# Altium footprint library Handheld.PcbLib: 77 footprints (part 2 of 5)
Each footprint in its own frame and in the unit in brackets; x right, y up, seen from the top. Pads: shape width x height; smd on the part's side, far side on the other; paste and mask are expansions set on the pad; w line width, h text height; cw(c..) or ccw(c..) is an arc to the next point about the centre after c.
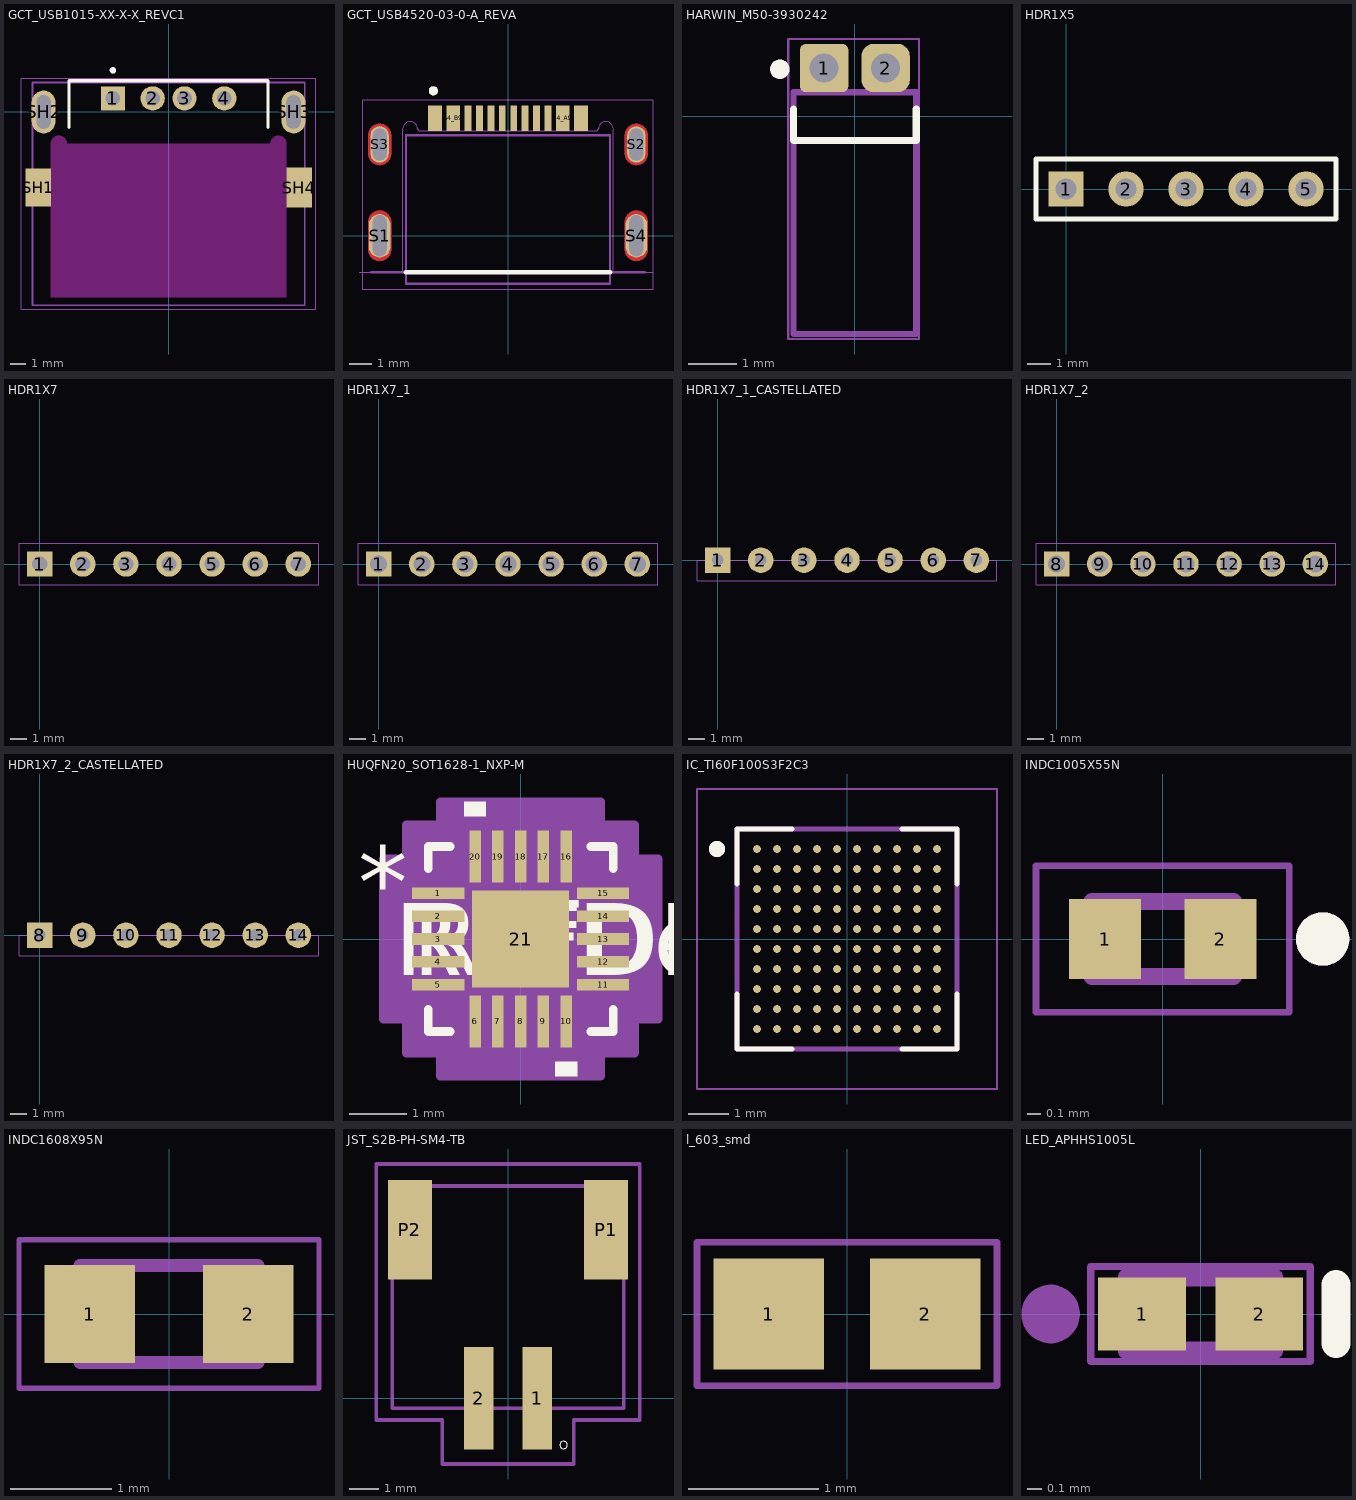
[diagram p1: the footprints below, top view; thin cyan lines are the x and y axes]

## GCT_USB1015-XX-X-X_REVC1 [mm]
height 6.22
pads (8):
  rect 1.524x1.524 / inner round 1.524 / far side rect 1.524x1.524 hole 0.92: 1(-3.5,0.85)
  round 1.524 hole 0.92: 2(-1,0.85) 3(1,0.85) 4(3.5,0.85)
  rect 1.6x2.4 smd: SH1(-8.2,-4.75)
  oval 1.5x2.7 hole 0.9 slot 2.1 at 90 deg: SH2(-7.85,0) SH3(7.85,0)
  rect 1.6x2.5 smd: SH4(8.2,-4.75)
Top Overlay:
  circle w0.2: c-3.5,2.612 r0.1
  lines w0.2: -6.25,-0.97 -6.25,1.962 6.25,1.962 6.25,-0.97
Keep-Out Layer:
  board cut-out: 7.4,-11.65 -7.4,-11.65 -7.4,-1.95 -7.396,-1.921 -7.392,-1.897 -7.386,-1.873 -7.38,-1.85 -7.372,-1.826 -7.363,-1.803 -7.353,-1.781 -7.341,-1.759 -7.329,-1.738 -7.316,-1.717 -7.301,-1.697 -7.286,-1.678 -7.27,-1.659 -7.252,-1.642 -7.234,-1.625 -7.216,-1.609 -7.196,-1.594 -7.176,-1.58 -7.155,-1.567 -7.133,-1.556 -7.111,-1.545 -7.088,-1.535 -7.065,-1.527 -7.042,-1.519 -7.018,-1.513 -6.994,-1.508 -6.969,-1.504 -6.945,-1.502 -6.92,-1.5 -6.9,-1.5 -6.88,-1.5 -6.855,-1.502 -6.831,-1.504 -6.806,-1.508 -6.782,-1.513 -6.758,-1.519 -6.735,-1.527 -6.712,-1.535 -6.689,-1.545 -6.667,-1.556 -6.645,-1.567 -6.624,-1.58 -6.604,-1.594 -6.584,-1.609 -6.566,-1.625 -6.548,-1.642 -6.53,-1.659 -6.514,-1.678 -6.499,-1.697 -6.484,-1.717 -6.471,-1.738 -6.459,-1.759 -6.447,-1.781 -6.437,-1.803 -6.428,-1.826 -6.42,-1.85 -6.414,-1.873 -6.408,-1.897 -6.404,-1.921 -6.4,-1.95 -6.4,-2 6.4,-2 6.4,-1.95 6.403,-1.926 6.408,-1.901 6.413,-1.877 6.42,-1.853 6.428,-1.83 6.437,-1.807 6.447,-1.784 6.459,-1.762 6.471,-1.74 6.485,-1.719 6.499,-1.699 6.515,-1.68 6.531,-1.661 6.549,-1.643 6.567,-1.626 6.586,-1.61 6.606,-1.595 6.626,-1.581 6.648,-1.568 6.669,-1.556 6.692,-1.545 6.715,-1.535 6.738,-1.527 6.762,-1.519 6.786,-1.513 6.81,-1.508 6.835,-1.504 6.86,-1.502 6.884,-1.5 6.91,-1.5 6.934,-1.501 6.958,-1.502 6.982,-1.505 7.006,-1.51 7.03,-1.515 7.053,-1.522 7.077,-1.529 7.099,-1.538 7.121,-1.548 7.143,-1.559 7.164,-1.571 7.185,-1.584 7.205,-1.598 7.224,-1.613 7.242,-1.629 7.26,-1.646 7.276,-1.664 7.292,-1.683 7.307,-1.702 7.321,-1.722 7.334,-1.742 7.346,-1.764 7.356,-1.786 7.366,-1.808 7.375,-1.831 7.382,-1.854 7.388,-1.877 7.393,-1.901 7.397,-1.925 7.4,-1.95
Mechanical 13:
  circle w0.2: c-3.5,2.612 r0.1
  lines w0.1: -8.55,-12.15 8.55,-12.15 8.55,1.85 -8.55,1.85 -8.55,-12.15
Mechanical 15:
  lines w0.05: -9.25,-12.4 -9.25,2.1 9.25,2.1 9.25,-12.4 -9.25,-12.4
3D body "step_temp.STEP": height 4.3, standoff -2.55, extent -8.55,-12.15 8.55,1.85

## GCT_USB4520-03-0-A_REVA [mm]
pads (16):
  rect 0.6x1.1 smd: A1_B12(-3.2,5.15) A4_B9(-2.4,5.15) B1_A12(3.2,5.15) B4_A9(2.4,5.15)
  rect 0.3x1.1 smd: A5(-1.25,5.15) A6(-0.25,5.15) A7(0.25,5.15) A8(1.25,5.15) B5(1.75,5.15) B6(0.75,5.15) B7(-0.75,5.15) B8(-1.75,5.15)
  oval 0.95x1.9 hole 0.6 slot 1.8 at 90 deg mask+0: S1(-5.62,0) S4(5.62,0)
  oval 0.8x1.6 hole 0.6 slot 1.4 at 90 deg mask+0: S2(5.62,4) S3(-5.62,4)
Top Layer:
  region: -5.594,4.899 -5.568,4.897 -5.542,4.894 -5.516,4.889 -5.491,4.883 -5.465,4.876 -5.441,4.867 -5.417,4.857 -5.393,4.846 -5.37,4.833 -5.348,4.819 -5.326,4.805 -5.305,4.789 -5.285,4.772 -5.266,4.754 -5.248,4.735 -5.231,4.715 -5.215,4.694 -5.201,4.672 -5.187,4.65 -5.174,4.627 -5.163,4.603 -5.153,4.579 -5.144,4.555 -5.137,4.529 -5.131,4.504 -5.126,4.478 -5.123,4.452 -5.121,4.426 -5.12,4.4 -5.12,3.6 -5.121,3.574 -5.123,3.548 -5.126,3.522 -5.131,3.496 -5.137,3.471 -5.144,3.445 -5.153,3.421 -5.163,3.397 -5.174,3.373 -5.187,3.35 -5.201,3.328 -5.215,3.306 -5.231,3.285 -5.248,3.265 -5.266,3.246 -5.285,3.228 -5.305,3.211 -5.326,3.195 -5.348,3.181 -5.37,3.167 -5.393,3.154 -5.417,3.143 -5.441,3.133 -5.465,3.124 -5.491,3.117 -5.516,3.111 -5.542,3.106 -5.568,3.103 -5.594,3.101 -5.62,3.1 -5.646,3.101 -5.672,3.103 -5.698,3.106 -5.724,3.111 -5.749,3.117 -5.775,3.124 -5.799,3.133 -5.823,3.143 -5.847,3.154 -5.87,3.167 -5.892,3.181 -5.914,3.195 -5.935,3.211 -5.955,3.228 -5.974,3.246 -5.992,3.265 -6.009,3.285 -6.025,3.306 -6.039,3.328 -6.053,3.35 -6.066,3.373 -6.077,3.397 -6.087,3.421 -6.096,3.445 -6.103,3.471 -6.109,3.496 -6.114,3.522 -6.117,3.548 -6.119,3.574 -6.12,3.6 -6.12,4.4 -6.119,4.426 -6.117,4.452 -6.114,4.478 -6.109,4.504 -6.103,4.529 -6.096,4.555 -6.087,4.579 -6.077,4.603 -6.066,4.627 -6.053,4.65 -6.039,4.672 -6.025,4.694 -6.009,4.715 -5.992,4.735 -5.974,4.754 -5.955,4.772 -5.935,4.789 -5.914,4.805 -5.892,4.819 -5.87,4.833 -5.847,4.846 -5.823,4.857 -5.799,4.867 -5.775,4.876 -5.749,4.883 -5.724,4.889 -5.698,4.894 -5.672,4.897 -5.646,4.899 -5.62,4.9
  region: 5.646,4.899 5.672,4.897 5.698,4.894 5.724,4.889 5.749,4.883 5.775,4.876 5.799,4.867 5.823,4.857 5.847,4.846 5.87,4.833 5.892,4.819 5.914,4.805 5.935,4.789 5.955,4.772 5.974,4.754 5.992,4.735 6.009,4.715 6.025,4.694 6.039,4.672 6.053,4.65 6.066,4.627 6.077,4.603 6.087,4.579 6.096,4.555 6.103,4.529 6.109,4.504 6.114,4.478 6.117,4.452 6.119,4.426 6.12,4.4 6.12,3.6 6.119,3.574 6.117,3.548 6.114,3.522 6.109,3.496 6.103,3.471 6.096,3.445 6.087,3.421 6.077,3.397 6.066,3.373 6.053,3.35 6.039,3.328 6.025,3.306 6.009,3.285 5.992,3.265 5.974,3.246 5.955,3.228 5.935,3.211 5.914,3.195 5.892,3.181 5.87,3.167 5.847,3.154 5.823,3.143 5.799,3.133 5.775,3.124 5.749,3.117 5.724,3.111 5.698,3.106 5.672,3.103 5.646,3.101 5.62,3.1 5.594,3.101 5.568,3.103 5.542,3.106 5.516,3.111 5.491,3.117 5.465,3.124 5.441,3.133 5.417,3.143 5.393,3.154 5.37,3.167 5.348,3.181 5.326,3.195 5.305,3.211 5.285,3.228 5.266,3.246 5.248,3.265 5.231,3.285 5.215,3.306 5.201,3.328 5.187,3.35 5.174,3.373 5.163,3.397 5.153,3.421 5.144,3.445 5.137,3.471 5.131,3.496 5.126,3.522 5.123,3.548 5.121,3.574 5.12,3.6 5.12,4.4 5.121,4.426 5.123,4.452 5.126,4.478 5.131,4.504 5.137,4.529 5.144,4.555 5.153,4.579 5.163,4.603 5.174,4.627 5.187,4.65 5.201,4.672 5.215,4.694 5.231,4.715 5.248,4.735 5.266,4.754 5.285,4.772 5.305,4.789 5.326,4.805 5.348,4.819 5.37,4.833 5.393,4.846 5.417,4.857 5.441,4.867 5.465,4.876 5.491,4.883 5.516,4.889 5.542,4.894 5.568,4.897 5.594,4.899 5.62,4.9
  region: -5.594,1.099 -5.568,1.097 -5.542,1.094 -5.516,1.089 -5.491,1.083 -5.465,1.076 -5.441,1.067 -5.417,1.057 -5.393,1.046 -5.37,1.033 -5.348,1.019 -5.326,1.005 -5.305,0.989 -5.285,0.972 -5.266,0.954 -5.248,0.935 -5.231,0.915 -5.215,0.894 -5.201,0.872 -5.187,0.85 -5.174,0.827 -5.163,0.803 -5.153,0.779 -5.144,0.755 -5.137,0.729 -5.131,0.704 -5.126,0.678 -5.123,0.652 -5.121,0.626 -5.12,0.6 -5.12,-0.6 -5.121,-0.626 -5.123,-0.652 -5.126,-0.678 -5.131,-0.704 -5.137,-0.729 -5.144,-0.755 -5.153,-0.779 -5.163,-0.803 -5.174,-0.827 -5.187,-0.85 -5.201,-0.872 -5.215,-0.894 -5.231,-0.915 -5.248,-0.935 -5.266,-0.954 -5.285,-0.972 -5.305,-0.989 -5.326,-1.005 -5.348,-1.019 -5.37,-1.033 -5.393,-1.046 -5.417,-1.057 -5.441,-1.067 -5.465,-1.076 -5.491,-1.083 -5.516,-1.089 -5.542,-1.094 -5.568,-1.097 -5.594,-1.099 -5.62,-1.1 -5.646,-1.099 -5.672,-1.097 -5.698,-1.094 -5.724,-1.089 -5.749,-1.083 -5.775,-1.076 -5.799,-1.067 -5.823,-1.057 -5.847,-1.046 -5.87,-1.033 -5.892,-1.019 -5.914,-1.005 -5.935,-0.989 -5.955,-0.972 -5.974,-0.954 -5.992,-0.935 -6.009,-0.915 -6.025,-0.894 -6.039,-0.872 -6.053,-0.85 -6.066,-0.827 -6.077,-0.803 -6.087,-0.779 -6.096,-0.755 -6.103,-0.729 -6.109,-0.704 -6.114,-0.678 -6.117,-0.652 -6.119,-0.626 -6.12,-0.6 -6.12,0.6 -6.119,0.626 -6.117,0.652 -6.114,0.678 -6.109,0.704 -6.103,0.729 -6.096,0.755 -6.087,0.779 -6.077,0.803 -6.066,0.827 -6.053,0.85 -6.039,0.872 -6.025,0.894 -6.009,0.915 -5.992,0.935 -5.974,0.954 -5.955,0.972 -5.935,0.989 -5.914,1.005 -5.892,1.019 -5.87,1.033 -5.847,1.046 -5.823,1.057 -5.799,1.067 -5.775,1.076 -5.749,1.083 -5.724,1.089 -5.698,1.094 -5.672,1.097 -5.646,1.099 -5.62,1.1
  region: 5.646,1.099 5.672,1.097 5.698,1.094 5.724,1.089 5.749,1.083 5.775,1.076 5.799,1.067 5.823,1.057 5.847,1.046 5.87,1.033 5.892,1.019 5.914,1.005 5.935,0.989 5.955,0.972 5.974,0.954 5.992,0.935 6.009,0.915 6.025,0.894 6.039,0.872 6.053,0.85 6.066,0.827 6.077,0.803 6.087,0.779 6.096,0.755 6.103,0.729 6.109,0.704 6.114,0.678 6.117,0.652 6.119,0.626 6.12,0.6 6.12,-0.6 6.119,-0.626 6.117,-0.652 6.114,-0.678 6.109,-0.704 6.103,-0.729 6.096,-0.755 6.087,-0.779 6.077,-0.803 6.066,-0.827 6.053,-0.85 6.039,-0.872 6.025,-0.894 6.009,-0.915 5.992,-0.935 5.974,-0.954 5.955,-0.972 5.935,-0.989 5.914,-1.005 5.892,-1.019 5.87,-1.033 5.847,-1.046 5.823,-1.057 5.799,-1.067 5.775,-1.076 5.749,-1.083 5.724,-1.089 5.698,-1.094 5.672,-1.097 5.646,-1.099 5.62,-1.1 5.594,-1.099 5.568,-1.097 5.542,-1.094 5.516,-1.089 5.491,-1.083 5.465,-1.076 5.441,-1.067 5.417,-1.057 5.393,-1.046 5.37,-1.033 5.348,-1.019 5.326,-1.005 5.305,-0.989 5.285,-0.972 5.266,-0.954 5.248,-0.935 5.231,-0.915 5.215,-0.894 5.201,-0.872 5.187,-0.85 5.174,-0.827 5.163,-0.803 5.153,-0.779 5.144,-0.755 5.137,-0.729 5.131,-0.704 5.126,-0.678 5.123,-0.652 5.121,-0.626 5.12,-0.6 5.12,0.6 5.121,0.626 5.123,0.652 5.126,0.678 5.131,0.704 5.137,0.729 5.144,0.755 5.153,0.779 5.163,0.803 5.174,0.827 5.187,0.85 5.201,0.872 5.215,0.894 5.231,0.915 5.248,0.935 5.266,0.954 5.285,0.972 5.305,0.989 5.326,1.005 5.348,1.019 5.37,1.033 5.393,1.046 5.417,1.057 5.441,1.067 5.465,1.076 5.491,1.083 5.516,1.089 5.542,1.094 5.568,1.097 5.594,1.099 5.62,1.1
Bottom Layer:
  region: -5.594,4.899 -5.568,4.897 -5.542,4.894 -5.516,4.889 -5.491,4.883 -5.465,4.876 -5.441,4.867 -5.417,4.857 -5.393,4.846 -5.37,4.833 -5.348,4.819 -5.326,4.805 -5.305,4.789 -5.285,4.772 -5.266,4.754 -5.248,4.735 -5.231,4.715 -5.215,4.694 -5.201,4.672 -5.187,4.65 -5.174,4.627 -5.163,4.603 -5.153,4.579 -5.144,4.555 -5.137,4.529 -5.131,4.504 -5.126,4.478 -5.123,4.452 -5.121,4.426 -5.12,4.4 -5.12,3.6 -5.121,3.574 -5.123,3.548 -5.126,3.522 -5.131,3.496 -5.137,3.471 -5.144,3.445 -5.153,3.421 -5.163,3.397 -5.174,3.373 -5.187,3.35 -5.201,3.328 -5.215,3.306 -5.231,3.285 -5.248,3.265 -5.266,3.246 -5.285,3.228 -5.305,3.211 -5.326,3.195 -5.348,3.181 -5.37,3.167 -5.393,3.154 -5.417,3.143 -5.441,3.133 -5.465,3.124 -5.491,3.117 -5.516,3.111 -5.542,3.106 -5.568,3.103 -5.594,3.101 -5.62,3.1 -5.646,3.101 -5.672,3.103 -5.698,3.106 -5.724,3.111 -5.749,3.117 -5.775,3.124 -5.799,3.133 -5.823,3.143 -5.847,3.154 -5.87,3.167 -5.892,3.181 -5.914,3.195 -5.935,3.211 -5.955,3.228 -5.974,3.246 -5.992,3.265 -6.009,3.285 -6.025,3.306 -6.039,3.328 -6.053,3.35 -6.066,3.373 -6.077,3.397 -6.087,3.421 -6.096,3.445 -6.103,3.471 -6.109,3.496 -6.114,3.522 -6.117,3.548 -6.119,3.574 -6.12,3.6 -6.12,4.4 -6.119,4.426 -6.117,4.452 -6.114,4.478 -6.109,4.504 -6.103,4.529 -6.096,4.555 -6.087,4.579 -6.077,4.603 -6.066,4.627 -6.053,4.65 -6.039,4.672 -6.025,4.694 -6.009,4.715 -5.992,4.735 -5.974,4.754 -5.955,4.772 -5.935,4.789 -5.914,4.805 -5.892,4.819 -5.87,4.833 -5.847,4.846 -5.823,4.857 -5.799,4.867 -5.775,4.876 -5.749,4.883 -5.724,4.889 -5.698,4.894 -5.672,4.897 -5.646,4.899 -5.62,4.9
  region: 5.646,4.899 5.672,4.897 5.698,4.894 5.724,4.889 5.749,4.883 5.775,4.876 5.799,4.867 5.823,4.857 5.847,4.846 5.87,4.833 5.892,4.819 5.914,4.805 5.935,4.789 5.955,4.772 5.974,4.754 5.992,4.735 6.009,4.715 6.025,4.694 6.039,4.672 6.053,4.65 6.066,4.627 6.077,4.603 6.087,4.579 6.096,4.555 6.103,4.529 6.109,4.504 6.114,4.478 6.117,4.452 6.119,4.426 6.12,4.4 6.12,3.6 6.119,3.574 6.117,3.548 6.114,3.522 6.109,3.496 6.103,3.471 6.096,3.445 6.087,3.421 6.077,3.397 6.066,3.373 6.053,3.35 6.039,3.328 6.025,3.306 6.009,3.285 5.992,3.265 5.974,3.246 5.955,3.228 5.935,3.211 5.914,3.195 5.892,3.181 5.87,3.167 5.847,3.154 5.823,3.143 5.799,3.133 5.775,3.124 5.749,3.117 5.724,3.111 5.698,3.106 5.672,3.103 5.646,3.101 5.62,3.1 5.594,3.101 5.568,3.103 5.542,3.106 5.516,3.111 5.491,3.117 5.465,3.124 5.441,3.133 5.417,3.143 5.393,3.154 5.37,3.167 5.348,3.181 5.326,3.195 5.305,3.211 5.285,3.228 5.266,3.246 5.248,3.265 5.231,3.285 5.215,3.306 5.201,3.328 5.187,3.35 5.174,3.373 5.163,3.397 5.153,3.421 5.144,3.445 5.137,3.471 5.131,3.496 5.126,3.522 5.123,3.548 5.121,3.574 5.12,3.6 5.12,4.4 5.121,4.426 5.123,4.452 5.126,4.478 5.131,4.504 5.137,4.529 5.144,4.555 5.153,4.579 5.163,4.603 5.174,4.627 5.187,4.65 5.201,4.672 5.215,4.694 5.231,4.715 5.248,4.735 5.266,4.754 5.285,4.772 5.305,4.789 5.326,4.805 5.348,4.819 5.37,4.833 5.393,4.846 5.417,4.857 5.441,4.867 5.465,4.876 5.491,4.883 5.516,4.889 5.542,4.894 5.568,4.897 5.594,4.899 5.62,4.9
  region: 5.646,1.099 5.672,1.097 5.698,1.094 5.724,1.089 5.749,1.083 5.775,1.076 5.799,1.067 5.823,1.057 5.847,1.046 5.87,1.033 5.892,1.019 5.914,1.005 5.935,0.989 5.955,0.972 5.974,0.954 5.992,0.935 6.009,0.915 6.025,0.894 6.039,0.872 6.053,0.85 6.066,0.827 6.077,0.803 6.087,0.779 6.096,0.755 6.103,0.729 6.109,0.704 6.114,0.678 6.117,0.652 6.119,0.626 6.12,0.6 6.12,-0.6 6.119,-0.626 6.117,-0.652 6.114,-0.678 6.109,-0.704 6.103,-0.729 6.096,-0.755 6.087,-0.779 6.077,-0.803 6.066,-0.827 6.053,-0.85 6.039,-0.872 6.025,-0.894 6.009,-0.915 5.992,-0.935 5.974,-0.954 5.955,-0.972 5.935,-0.989 5.914,-1.005 5.892,-1.019 5.87,-1.033 5.847,-1.046 5.823,-1.057 5.799,-1.067 5.775,-1.076 5.749,-1.083 5.724,-1.089 5.698,-1.094 5.672,-1.097 5.646,-1.099 5.62,-1.1 5.594,-1.099 5.568,-1.097 5.542,-1.094 5.516,-1.089 5.491,-1.083 5.465,-1.076 5.441,-1.067 5.417,-1.057 5.393,-1.046 5.37,-1.033 5.348,-1.019 5.326,-1.005 5.305,-0.989 5.285,-0.972 5.266,-0.954 5.248,-0.935 5.231,-0.915 5.215,-0.894 5.201,-0.872 5.187,-0.85 5.174,-0.827 5.163,-0.803 5.153,-0.779 5.144,-0.755 5.137,-0.729 5.131,-0.704 5.126,-0.678 5.123,-0.652 5.121,-0.626 5.12,-0.6 5.12,0.6 5.121,0.626 5.123,0.652 5.126,0.678 5.131,0.704 5.137,0.729 5.144,0.755 5.153,0.779 5.163,0.803 5.174,0.827 5.187,0.85 5.201,0.872 5.215,0.894 5.231,0.915 5.248,0.935 5.266,0.954 5.285,0.972 5.305,0.989 5.326,1.005 5.348,1.019 5.37,1.033 5.393,1.046 5.417,1.057 5.441,1.067 5.465,1.076 5.491,1.083 5.516,1.089 5.542,1.094 5.568,1.097 5.594,1.099 5.62,1.1
  region: -5.594,1.099 -5.568,1.097 -5.542,1.094 -5.516,1.089 -5.491,1.083 -5.465,1.076 -5.441,1.067 -5.417,1.057 -5.393,1.046 -5.37,1.033 -5.348,1.019 -5.326,1.005 -5.305,0.989 -5.285,0.972 -5.266,0.954 -5.248,0.935 -5.231,0.915 -5.215,0.894 -5.201,0.872 -5.187,0.85 -5.174,0.827 -5.163,0.803 -5.153,0.779 -5.144,0.755 -5.137,0.729 -5.131,0.704 -5.126,0.678 -5.123,0.652 -5.121,0.626 -5.12,0.6 -5.12,-0.6 -5.121,-0.626 -5.123,-0.652 -5.126,-0.678 -5.131,-0.704 -5.137,-0.729 -5.144,-0.755 -5.153,-0.779 -5.163,-0.803 -5.174,-0.827 -5.187,-0.85 -5.201,-0.872 -5.215,-0.894 -5.231,-0.915 -5.248,-0.935 -5.266,-0.954 -5.285,-0.972 -5.305,-0.989 -5.326,-1.005 -5.348,-1.019 -5.37,-1.033 -5.393,-1.046 -5.417,-1.057 -5.441,-1.067 -5.465,-1.076 -5.491,-1.083 -5.516,-1.089 -5.542,-1.094 -5.568,-1.097 -5.594,-1.099 -5.62,-1.1 -5.646,-1.099 -5.672,-1.097 -5.698,-1.094 -5.724,-1.089 -5.749,-1.083 -5.775,-1.076 -5.799,-1.067 -5.823,-1.057 -5.847,-1.046 -5.87,-1.033 -5.892,-1.019 -5.914,-1.005 -5.935,-0.989 -5.955,-0.972 -5.974,-0.954 -5.992,-0.935 -6.009,-0.915 -6.025,-0.894 -6.039,-0.872 -6.053,-0.85 -6.066,-0.827 -6.077,-0.803 -6.087,-0.779 -6.096,-0.755 -6.103,-0.729 -6.109,-0.704 -6.114,-0.678 -6.117,-0.652 -6.119,-0.626 -6.12,-0.6 -6.12,0.6 -6.119,0.626 -6.117,0.652 -6.114,0.678 -6.109,0.704 -6.103,0.729 -6.096,0.755 -6.087,0.779 -6.077,0.803 -6.066,0.827 -6.053,0.85 -6.039,0.872 -6.025,0.894 -6.009,0.915 -5.992,0.935 -5.974,0.954 -5.955,0.972 -5.935,0.989 -5.914,1.005 -5.892,1.019 -5.87,1.033 -5.847,1.046 -5.823,1.057 -5.799,1.067 -5.775,1.076 -5.749,1.083 -5.724,1.089 -5.698,1.094 -5.672,1.097 -5.646,1.099 -5.62,1.1
Top Overlay:
  circle w0.2: c-3.27,6.35 r0.1
  lines w0.2: -4.47,-1.6 4.47,-1.6
Top Solder:
  drawing of 4 lines, arcs and shapes, not listed
Bottom Solder:
  drawing of 4 lines, arcs and shapes, not listed
Mechanical 1:
  lines w0: -6.52,-1.6 -4.62,-1.6 -4.62,4.6 cw(c-4.257,4.637) -4.296,5 ; -4.294,5 cw(c-4.273,4.697) -3.97,4.719 ; -3.97,4.721 ccw(c-3.835,4.735) -3.821,4.6 ; -3.82,4.6 3.82,4.6 ; 3.821,4.6 ccw(c3.835,4.735) 3.97,4.721 ; 3.97,4.719 cw(c4.273,4.697) 4.294,5 ; 4.296,5 cw(c4.257,4.637) 4.62,4.599 4.62,-1.6 6.36,-1.6
Mechanical 13:
  circle w0.2: c-3.27,6.35 r0.1
  lines w0.1: -6,-1.6 6,-1.6 ; -4.47,-2.1 -4.47,4.4 4.47,4.4 4.47,-2.1 -4.47,-2.1
  text "PCB Edge" at 6.46,-1.49 h0.81
Mechanical 15:
  lines w0.05: -6.37,-2.35 -6.37,5.95 6.37,5.95 6.37,-2.35 -6.37,-2.35
3D body "step_temp.STEP": height 1.06, standoff -2.1, extent -5.77,-2.1 5.77,5.1

## HARWIN_M50-3930242 [mm]
height 2.3
pads (2):
  rrect25% 1x1 / inner round 1 / far side rrect25% 1x1 hole 0.6 mask+0.025: 1(-0.635,1)
  rrect50% 1x1 / inner round 1 / far side rrect50% 1x1 hole 0.6 mask+0.025: 2(0.635,1)
Top Overlay:
  circle w0.2: c-1.55,0.975 r0.1
  lines w0.15: -1.27,0.15 -1.27,-0.5 1.27,-0.5 1.27,0.15
Mechanical 13:
  circle w0.2: c-1.55,0.975 r0.1
  lines w0.127: -1.27,-0.5 -1.27,0.5 1.27,0.5 1.27,-0.5 ; -1.27,-0.5 1.27,-0.5 ; -1.27,-0.5 -1.27,-4.5 1.27,-4.5 1.27,-0.5
Mechanical 15:
  lines w0.05: -1.375,-4.6 -1.375,1.6 1.325,1.6 1.325,-4.6 -1.375,-4.6
3D body "m50-3930242.stp": height 2.1, standoff -2.4, extent -1.275,-4.5 1.265,1.2

## HDR1X5 [mm] "Connector; Header; 5 Position"
pads (5):
  rect 1.5x1.5 hole 0.9: 1(0,0)
  round 1.5 hole 0.9: 2(2.54,0) 3(5.08,0) 4(7.62,0) 5(10.16,0)
Top Overlay:
  lines w0.2: -1.27,-1.27 -1.27,1.27 11.43,1.27 11.43,-1.27 -1.27,-1.27

## HDR1X7 [mm] "Connector; Header; 7 Position"
pads (7):
  rect 1.5x1.5 hole 0.9: 1(0,0)
  round 1.5 hole 0.9: 2(2.54,0) 3(5.08,0) 4(7.62,0) 5(10.16,0) 6(12.7,0) 7(15.24,0)
Bottom Overlay:
  lines w0.1: 0,-0.95 -0.95,-0.95 -0.95,0.95 0,0.95
  text "1" at -1.695,0.24 h0.6
Mechanical 15:
  lines w0.05: -1.22,-1.22 16.46,-1.22 16.46,1.22 -1.22,1.22 -1.22,-1.22

## HDR1X7_1 [mm] "Connector; Header; 7 Position"
pads (7):
  rect 1.5x1.5 hole 1: 1(0,0)
  round 1.5 hole 1: 2(2.54,0) 3(5.08,0) 4(7.62,0) 5(10.16,0) 6(12.7,0) 7(15.24,0)
Bottom Overlay:
  lines w0.1: 0,-0.95 -0.95,-0.95 -0.95,0.95 0,0.95
  text "1" at -1.695,0.24 h0.6
Mechanical 15:
  lines w0.05: -1.22,-1.22 16.46,-1.22 16.46,1.22 -1.22,1.22 -1.22,-1.22

## HDR1X7_1_CASTELLATED [mm] "Connector; Header Castellated; 7 Position"
pads (7):
  rect 1.5x1.5 hole 0.7 paste-2539.97 mask+0.05: 1(0,0)
  round 1.5 hole 0.7 paste-2539.97 mask+0.05: 2(2.54,0) 3(5.08,0) 4(7.62,0) 5(10.16,0) 6(12.7,0) 7(15.24,0)
Bottom Overlay:
  text "1" at -1.3,-0.425 h0.6
Mechanical 15:
  lines w0.05: -1.22,-1.2 -1.22,0 16.46,0 16.46,-1.2 -1.22,-1.2

## HDR1X7_2 [mm] "Connector; Header; 7 Position"
pads (7):
  rect 1.5x1.5 hole 1: 8(0,0)
  round 1.5 hole 1: 9(2.54,0) 10(5.08,0) 11(7.62,0) 12(10.16,0) 13(12.7,0) 14(15.24,0)
Bottom Overlay:
  lines w0.1: 0,-0.95 -0.95,-0.95 -0.95,0.95 0,0.95
  text "8" at -1.75,0.24 h0.6
Mechanical 15:
  lines w0.05: -1.22,-1.22 -1.22,1.22 16.46,1.22 16.46,-1.22 -1.22,-1.22

## HDR1X7_2_CASTELLATED [mm] "Connector; Header Castellated; 7 Position"
pads (7):
  rect 1.5x1.5 hole 0.7 paste-2539.97 mask+0.05: 8(0,0)
  round 1.5 hole 0.7 paste-2539.97 mask+0.05: 9(2.54,0) 10(5.08,0) 11(7.62,0) 12(10.16,0) 13(12.7,0) 14(15.24,0)
Bottom Overlay:
  text "14" at 16.95,-1.025 h0.6
Mechanical 15:
  lines w0.05: -1.22,-1.2 16.46,-1.2 16.46,0 -1.22,0 -1.22,-1.2

## HUQFN20_SOT1628-1_NXP-M [mil]
pads (21):
  rect 36x8 smd paste+0 mask+0: 1(-57,31.5) 2(-57,15.75) 3(-57,0) 4(-57,-15.75) 5(-57,-31.5) 11(57,-31.5) 12(57,-15.75) 13(57,0) 14(57,15.75) 15(57,31.5)
  rect 8x36 smd paste+0 mask+0: 6(-31.5,-57) 7(-15.75,-57) 8(0,-57) 9(15.75,-57) 10(31.5,-57) 16(31.5,57) 17(15.75,57) 18(0,57) 19(-15.75,57) 20(-31.5,57)
  rect 67x67 smd paste+0 mask+0: 21(0,0)
Top Overlay:
  region: 39,-85 24,-85 24,-95 39,-95
  region: -24,85 -39,85 -39,95 -24,95
  lines w6: -64,-48.6 -64,-64 -48.6,-64 ; -64,48.6 -64,64 -48.6,64 ; 48.6,-64 64,-64 64,-48.6 ; 48.6,64 64,64 64,48.6
  text "*" at -112.5,14.37 h50
  text "RefDes" at -75,-25 h50
  text "REFDES" at -87.5,-25 h50
Mechanical 13:
  lines w1: -59,9 -9,59 ; -59,-59 59,-59 59,59 -59,59 -59,-59 ; -59,-36.5 -59,-26.5 -59,-36.5 ; -59,-20.75 -59,-10.75 -59,-20.75 ; -59,-5 -59,5 -59,-5 ; -59,10.75 -59,20.75 -59,10.75 ; -59,26.5 -59,36.5 -59,26.5 ; -36.5,-59 -26.5,-59 -36.5,-59 ; -36.5,59 -26.5,59 -36.5,59 ; -20.75,-59 -10.75,-59 -20.75,-59 ; -20.75,59 -10.75,59 -20.75,59 ; -5,-59 5,-59 -5,-59 ; -5,59 5,59 -5,59 ; 10.75,-59 20.75,-59 10.75,-59 ; 10.75,59 20.75,59 10.75,59 ; 26.5,-59 36.5,-59 26.5,-59 ; 26.5,59 36.5,59 26.5,59 ; 59,-36.5 59,-26.5 59,-36.5 ; 59,-20.75 59,-10.75 59,-20.75 ; 59,-5 59,5 59,-5 ; 59,10.75 59,20.75 59,10.75 ; 59,26.5 59,36.5 59,26.5
  text "*" at -51.5,14.37 h50
  text "RefDes2" at -87.5,-25 h50
Mechanical 15:
  region: -55.5,-79 -79,-79 -79,-55.5 -95,-55.5 -95,55.5 -79,55.5 -79,79 -55.5,79 -55.5,95 55.5,95 55.5,79 79,79 79,55.5 95,55.5 95,-55.5 79,-55.5 79,-79 55.5,-79 55.5,-95 -55.5,-95
  lines w6: -95,-55.5 -79,-55.5 -79,-79 -55.5,-79 -55.5,-95 55.5,-95 55.5,-79 79,-79 79,-55.5 95,-55.5 95,55.5 79,55.5 79,79 55.5,79 55.5,95 -55.5,95 -55.5,79 -79,79 -79,55.5 -95,55.5 -95,-55.5
3D body "HUQFN20_SOT1628-1_NXP.step": height 24.09, standoff 0, extent -59.02,-59.02 59.02,59.02

## IC_TI60F100S3F2C3 [mm]
height 1.1
pads (100):
  round 0.2 smd mask+0.075: A1(-2.25,2.25) A2(-1.75,2.25) A3(-1.25,2.25) A4(-0.75,2.25) A5(-0.25,2.25) A6(0.25,2.25) A7(0.75,2.25) A8(1.25,2.25) A9(1.75,2.25) A10(2.25,2.25) B1(-2.25,1.75) B2(-1.75,1.75) B3(-1.25,1.75) B4(-0.75,1.75) B5(-0.25,1.75) B6(0.25,1.75) B7(0.75,1.75) B8(1.25,1.75) B9(1.75,1.75) B10(2.25,1.75) C1(-2.25,1.25) C2(-1.75,1.25) C3(-1.25,1.25) C4(-0.75,1.25) C5(-0.25,1.25) C6(0.25,1.25) C7(0.75,1.25) C8(1.25,1.25) C9(1.75,1.25) C10(2.25,1.25) D1(-2.25,0.75) D2(-1.75,0.75) D3(-1.25,0.75) D4(-0.75,0.75) D5(-0.25,0.75) D6(0.25,0.75) D7(0.75,0.75) D8(1.25,0.75) D9(1.75,0.75) D10(2.25,0.75) E1(-2.25,0.25) E2(-1.75,0.25) E3(-1.25,0.25) E4(-0.75,0.25) E5(-0.25,0.25) E6(0.25,0.25) E7(0.75,0.25) E8(1.25,0.25) E9(1.75,0.25) E10(2.25,0.25) F1(-2.25,-0.25) F2(-1.75,-0.25) F3(-1.25,-0.25) F4(-0.75,-0.25) F5(-0.25,-0.25) F6(0.25,-0.25) F7(0.75,-0.25) F8(1.25,-0.25) F9(1.75,-0.25) F10(2.25,-0.25) G1(-2.25,-0.75) G2(-1.75,-0.75) G3(-1.25,-0.75) G4(-0.75,-0.75) G5(-0.25,-0.75) G6(0.25,-0.75) G7(0.75,-0.75) G8(1.25,-0.75) G9(1.75,-0.75) G10(2.25,-0.75) H1(-2.25,-1.25) H2(-1.75,-1.25) H3(-1.25,-1.25) H4(-0.75,-1.25) H5(-0.25,-1.25) H6(0.25,-1.25) H7(0.75,-1.25) H8(1.25,-1.25) H9(1.75,-1.25) H10(2.25,-1.25) J1(-2.25,-1.75) J2(-1.75,-1.75) J3(-1.25,-1.75) J4(-0.75,-1.75) J5(-0.25,-1.75) J6(0.25,-1.75) J7(0.75,-1.75) J8(1.25,-1.75) J9(1.75,-1.75) J10(2.25,-1.75) K1(-2.25,-2.25) K2(-1.75,-2.25) K3(-1.25,-2.25) K4(-0.75,-2.25) K5(-0.25,-2.25) K6(0.25,-2.25) K7(0.75,-2.25) K8(1.25,-2.25) K9(1.75,-2.25) K10(2.25,-2.25)
Top Overlay:
  circle w0.2: c-3.25,2.25 r0.1
  lines w0.127: -2.75,-1.375 -2.75,-2.75 -1.375,-2.75 ; -2.75,1.375 -2.75,2.75 -1.375,2.75 ; 1.375,-2.75 2.75,-2.75 2.75,-1.375 ; 1.375,2.75 2.75,2.75 2.75,1.375
Mechanical 13:
  circle w0.2: c-3.25,2.25 r0.1
  lines w0.127: -2.75,-2.75 2.75,-2.75 2.75,2.75 -2.75,2.75 -2.75,-2.75
Mechanical 15:
  lines w0.05: -3.75,-3.75 3.75,-3.75 3.75,3.75 -3.75,3.75 -3.75,-3.75
3D body "step_temp.STEP": height 1.1, standoff 0, extent -2.75,-2.75 2.75,2.75

## INDC1005X55N [mm]
pads (2):
  rect 0.54x0.6 smd: 1(-0.432,0) 2(0.432,0)
Top Overlay:
  circle w0.2: c1.2,0 r0.1
Mechanical 13:
  circle w0.2: c1.2,0 r0.1
  lines w0.127: -0.53,-0.28 -0.53,0.28 0.53,0.28 0.53,-0.28 -0.53,-0.28
Mechanical 15:
  lines w0.05: -0.95,-0.55 -0.95,0.55 0.95,0.55 0.95,-0.55 -0.95,-0.55
3D body "INDC1005X55N.step": height 0.5, standoff 0, extent -0.5,-0.254 0.5,0.296

## INDC1608X95N [mm]
pads (2):
  rect 0.9x0.97 smd: 1(-0.785,0) 2(0.785,0)
Mechanical 13:
  lines w0.127: -0.88,-0.48 0.88,-0.48 0.88,0.48 -0.88,0.48 -0.88,-0.48
Mechanical 15:
  lines w0.05: -1.485,-0.735 1.485,-0.735 1.485,0.735 -1.485,0.735 -1.485,-0.735
3D body "step_temp.STEP": height 0.55, standoff 0, extent -0.5,-0.25 0.5,0.25

## JST_S2B-PH-SM4-TB [mm]
pads (4):
  rect 1x3.5 smd: 1(1,0) 2(-1,0)
  rect 1.5x3.4 smd: P1(3.35,5.75) P2(-3.35,5.75)
Top Overlay:
  circle w0: c1.9,-1.6 r0.127
Mechanical 13:
  lines w0.127: -3.95,-0.35 -3.95,7.25 3.95,7.25 3.95,-0.35 -3.95,-0.35
Mechanical 15:
  lines w0.127: -4.5,-0.75 -4.5,8 4.5,8 4.5,-0.75 2.25,-0.75 2.25,-2.25 -2.25,-2.25 -2.25,-0.75 -4.5,-0.75
3D body "step_temp.STEP": height 5.5, standoff -0.1, extent -3.95,-1.234 3.95,7.366

## l_603_smd [mm] "Chip SMD component 603; Body 1.6 x 0.8mm (LxW typ); small footprint"
height 1
pads (2):
  rect 0.85x0.85 smd paste+0 mask+0.05: 1(-0.6,0) 2(0.6,0)
Mechanical 15:
  lines w0.05: -1.15,-0.55 1.15,-0.55 1.15,0.55 -1.15,0.55 -1.15,-0.55
3D body "GRM188.STEP": height 0.9, standoff 0, extent -0.8,-0.4 0.8,0.4

## LED_APHHS1005L [mm] "Chip Diode; Body 1.0 x 0.5 mm (LxW typ)"
height 0.25
pads (2):
  rect 0.6x0.5 smd mask+0.05: 1(-0.4,0) 2(0.4,0)
Top Overlay:
  lines w0.2: 0.925,-0.2 0.925,0.2
Mechanical 13:
  circle w0.2: c-1.025,0 r0.1
  lines w0.127: -0.5,-0.25 -0.5,0.25 0.5,0.25 0.5,-0.25 -0.5,-0.25
Mechanical 15:
  lines w0.05: -0.75,-0.325 0.75,-0.325 0.75,0.325 -0.75,0.325 -0.75,-0.325
3D body "step_temp.STEP": height 0.5, standoff 0, extent -0.5,-0.25 0.5,0.25